# EAGLE library part CORE.W (library Bergsonne Tiles)
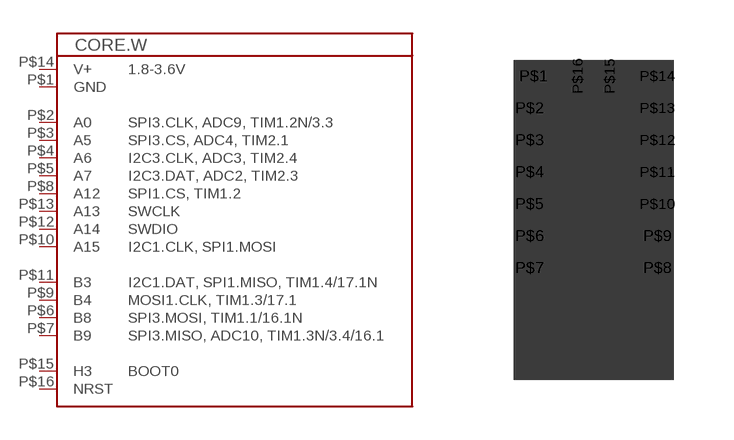
[diagram p7: symbol with the pads of T48-16; footprint T48-16]

Designator prefix -

## CORE.W  [T48-16]
P$1  GND
P$2  A0
P$3  A5
P$4  A6
P$5  A7
P$6  B8
P$7  B9
P$8  A12
P$9  B4
P$10  A15
P$11  B3
P$12  A14
P$13  A13
P$14  V+
P$15  H3
P$16  NRST

## Footprint T48-16 (pad centres in mm)
smd 1 x 0.4: P$1 -1.5,1.6
smd 0.8 x 0.4: P$2 -1.6,0.8; P$3 -1.6,0; P$4 -1.6,-0.8; P$5 -1.6,-1.6; P$6 -1.6,-2.4; P$7 -1.6,-3.2; P$8 1.6,-3.2; P$9 1.6,-2.4; P$10 1.6,-1.6; P$11 1.6,-0.8; P$12 1.6,0; P$13 1.6,0.8; P$14 1.6,1.6
smd 0.4 x 0.8: P$15 0.4,1.6; P$16 -0.4,1.6